# Altium footprint library ES7210.PcbLib: 1 footprints
Each footprint in its own frame and in the unit in brackets; x right, y up, seen from the top. Pads: shape width x height; smd on the part's side, far side on the other; paste and mask are expansions set on the pad; w line width, h text height; cw(c..) or ccw(c..) is an arc to the next point about the centre after c.
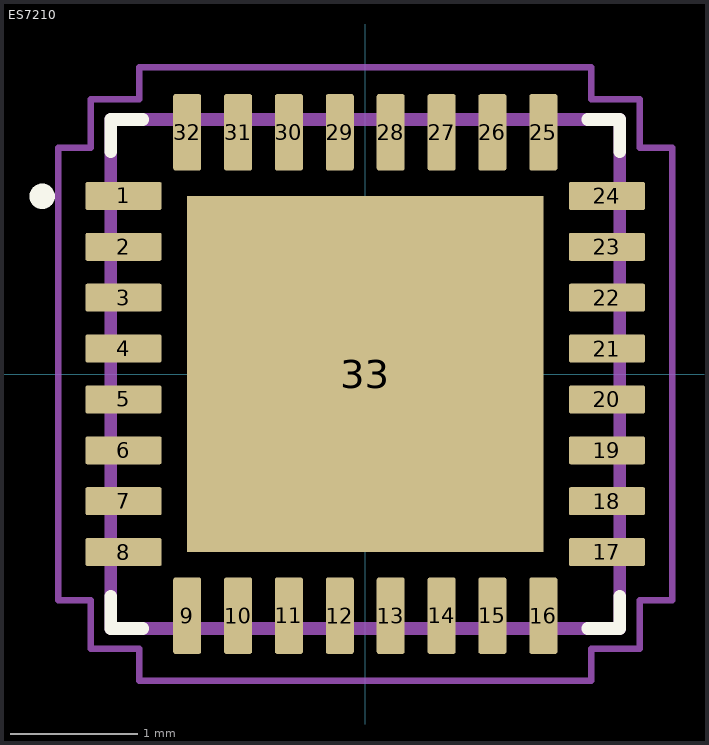
[diagram p0: the footprint, top view; thin cyan lines are the x and y axes]

## ES7210 [mm]
pads (33):
  rrect15% 0.6x0.22 smd mask+0.102: 1(-1.9,1.4) 2(-1.9,1) 3(-1.9,0.6) 4(-1.9,0.2) 5(-1.9,-0.2) 6(-1.9,-0.6) 7(-1.9,-1) 8(-1.9,-1.4) 17(1.9,-1.4) 18(1.9,-1) 19(1.9,-0.6) 20(1.9,-0.2) 21(1.9,0.2) 22(1.9,0.6) 23(1.9,1) 24(1.9,1.4)
  rrect15% 0.22x0.6 smd mask+0.102: 9(-1.4,-1.9) 10(-1,-1.9) 11(-0.6,-1.9) 12(-0.2,-1.9) 13(0.2,-1.9) 14(0.6,-1.9) 15(1,-1.9) 16(1.4,-1.9) 25(1.4,1.9) 26(1,1.9) 27(0.6,1.9) 28(0.2,1.9) 29(-0.2,1.9) 30(-0.6,1.9) 31(-1,1.9) 32(-1.4,1.9)
  rect 2.8x2.8 smd mask+0.102: 33(0,0)
Top Overlay:
  circle w0.1: c-2.54,1.397 r0.05
  lines w0.1: -2,-1.75 -2,-2 -1.75,-2 ; -2,1.75 -2,2 -1.75,2 ; 1.75,-2 2,-2 2,-1.75 ; 1.75,2 2,2 2,1.75
Top 3D Body:
  lines w0.1: -2,-2 -2,2 2,2 2,-2 -2,-2
Top Courtyard:
  lines w0.05: -2.413,-1.778 -2.413,1.778 -2.159,1.778 -2.159,2.159 -1.778,2.159 -1.778,2.413 1.778,2.413 1.778,2.159 2.159,2.159 2.159,1.778 2.413,1.778 2.413,-1.778 2.159,-1.778 2.159,-2.159 1.778,-2.159 1.778,-2.413 -1.778,-2.413 -1.778,-2.159 -2.159,-2.159 -2.159,-1.778 -2.413,-1.778
3D body "ES7210.STEP": height 0.87, standoff 0, extent -2.001,-2.001 2.001,2.001